# Altium integrated library CL21C270JCANNNC.IntLib: 1 symbol
Pins are listed as number, name and electrical type; pins without a type are passive.

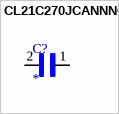
[diagram p0: symbol CL21C270JCANNNC]

## CL21C270JCANNNC
designator C?
Cap Ceramic 27pF 100VDC C0G 5% SMD 0805 Paper T/R; MP: CL21C270JCANNNC; Package: None; Price: None; Value: *; Availability: Unavailable
footprint CAPC2012X140N
pins: 1, 2